# Altium schematic symbol library LE910NA-V2.Schlib: 1 symbol
Pins are listed as number, name and electrical type; pins without a type are passive.

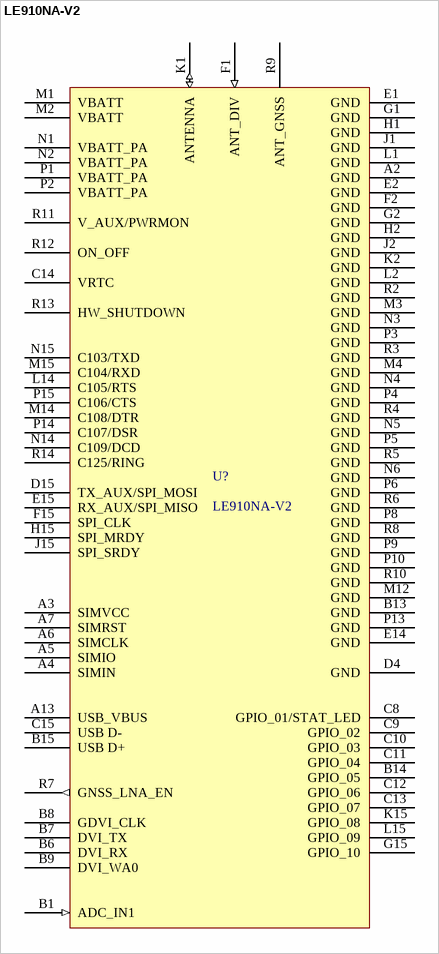
[diagram p0: symbol LE910NA-V2]

## LE910NA-V2
designator U?
LE910NA-V2 GSM LTE Modem
pins: A2 GND, A3 SIMVCC, A4 SIMIN, A5 SIMIO, A6 SIMCLK, A7 SIMRST, A13 USB_VBUS, B1 ADC_IN1 (in), B6 DVI_RX, B7 DVI_TX, B8 GDVI_CLK, B9 DVI_WA0, B13 GND, B14 GPIO_05, B15 USB D+, C8 GPIO_01/STAT_LED, C9 GPIO_02, C10 GPIO_03, C11 GPIO_04, C12 GPIO_06, C13 GPIO_07, C14 VRTC, C15 USB D-, D4 GND, D15 TX_AUX/SPI_MOSI, E1 GND, E2 GND, E14 GND, E15 RX_AUX/SPI_MISO, F1 ANT_DIV (in), F2 GND, F15 SPI_CLK, G1 GND, G2 GND, G15 GPIO_10, H1 GND, H2 GND, H15 SPI_MRDY, J1 GND, J2 GND, J15 SPI_SRDY, K1 ANTENNA (io), K2 GND, K15 GPIO_08, L1 GND, L2 GND, L14 C105/RTS, L15 GPIO_09, M1 VBATT, M2 VBATT, M3 GND, M4 GND, M12 GND, M14 C108/DTR (hiz), M15 C104/RXD, N1 VBATT_PA, N2 VBATT_PA, N3 GND, N4 GND, N5 GND, N6 GND, N14 C109/DCD, N15 C103/TXD, P1 VBATT_PA, P2 VBATT_PA, P3 GND, P4 GND, P5 GND, P6 GND, P8 GND, P9 GND, P10 GND, P13 GND, P14 C107/DSR, P15 C106/CTS, R2 GND, R3 GND, R4 GND, R5 GND, R6 GND, R7 GNSS_LNA_EN (out), R8 GND, R9 ANT_GNSS, R10 GND, R11 V_AUX/PWRMON, R12 ON_OFF, R13 HW_SHUTDOWN, R14 C125/RING